# EAGLE library part SSW-133-02-S-S (library con-samtec)
THROUGH-HOLE .025" SQ POST SOCKET Source: Samtec SSW.pdf
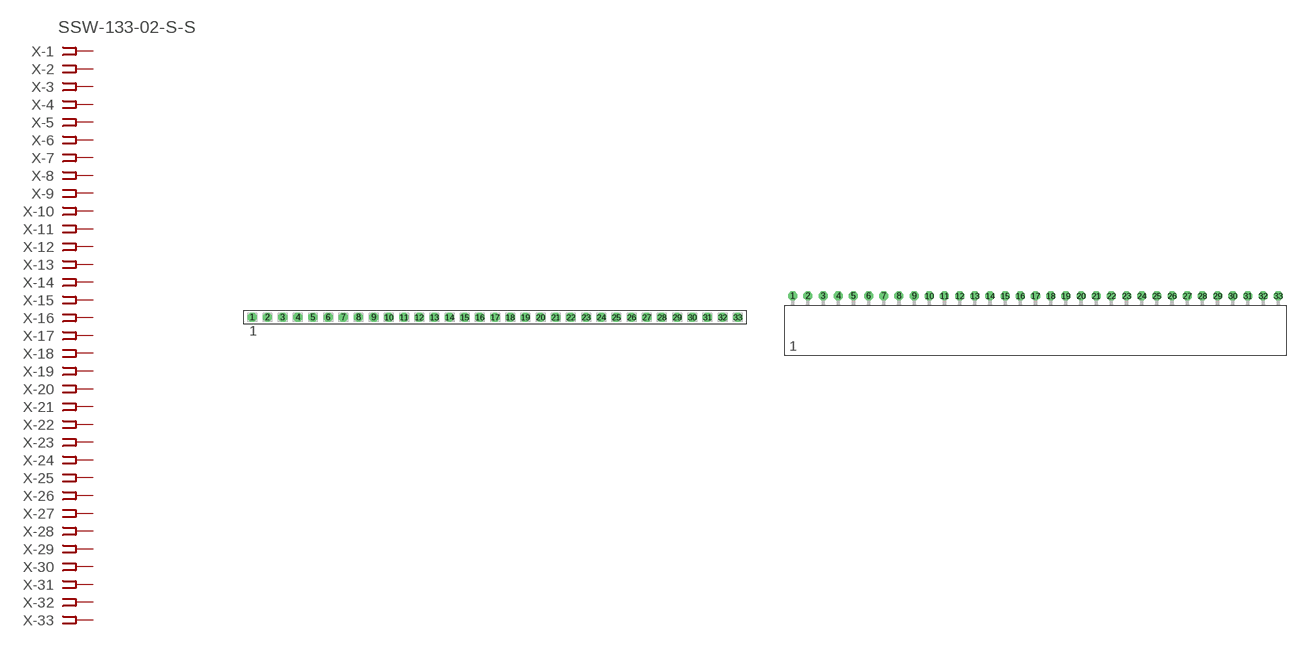
[diagram p71: symbol with the pads of SSW-133-02-S-S; footprints SSW-133-02-S-S, SSW-133-02-S-S-RA]

Designator prefix X; gates -1=FPINV -2=FPIN -3=FPIN -4=FPIN -5=FPIN -6=FPIN -7=FPIN -8=FPIN -9=FPIN -10=FPIN -11=FPIN -12=FPIN -13=FPIN -14=FPIN -15=FPIN -16=FPIN -17=FPIN -18=FPIN -19=FPIN -20=FPIN -21=FPIN -22=FPIN -23=FPIN -24=FPIN -25=FPIN -26=FPIN -27=FPIN -28=FPIN -29=FPIN -30=FPIN -31=FPIN -32=FPIN -33=FPIN

## SSW-133-02-S-S  [SSW-133-02-S-S]
1  -1:1  pas
2  -2:1  pas
3  -3:1  pas
4  -4:1  pas
5  -5:1  pas
6  -6:1  pas
7  -7:1  pas
8  -8:1  pas
9  -9:1  pas
10  -10:1  pas
11  -11:1  pas
12  -12:1  pas
13  -13:1  pas
14  -14:1  pas
15  -15:1  pas
16  -16:1  pas
17  -17:1  pas
18  -18:1  pas
19  -19:1  pas
20  -20:1  pas
21  -21:1  pas
22  -22:1  pas
23  -23:1  pas
24  -24:1  pas
25  -25:1  pas
26  -26:1  pas
27  -27:1  pas
28  -28:1  pas
29  -29:1  pas
30  -30:1  pas
31  -31:1  pas
32  -32:1  pas
33  -33:1  pas

## SSW-133-02-S-S-RA  [SSW-133-02-S-S-RA]
Pads as for SSW-133-02-S-S

## Footprint SSW-133-02-S-S (pad centres in mm)
THROUGH-HOLE .025" SQ POST SOCKET Source: Samtec SSW.pdf
drill 1 pad 1.5 octagon: 1 -40.64,0; 2 -38.1,0; 3 -35.56,0; 4 -33.02,0; 5 -30.48,0; 6 -27.94,0; 7 -25.4,0; 8 -22.86,0; 9 -20.32,0; 10 -17.78,0; 11 -15.24,0; 12 -12.7,0; 13 -10.16,0; 14 -7.62,0; 15 -5.08,0; 16 -2.54,0; 17 0,0; 18 2.54,0; 19 5.08,0; 20 7.62,0; 21 10.16,0; 22 12.7,0; 23 15.24,0; 24 17.78,0; 25 20.32,0; 26 22.86,0; 27 25.4,0; 28 27.94,0; 29 30.48,0; 30 33.02,0; 31 35.56,0; 32 38.1,0; 33 40.64,0

## Footprint SSW-133-02-S-S-RA (pad centres in mm)
THROUGH-HOLE .025" SQ POST SOCKET Source: Samtec SSW.pdf
drill 1 pad 1.5 octagon: 1 -40.64,1.524; 2 -38.1,1.524; 3 -35.56,1.524; 4 -33.02,1.524; 5 -30.48,1.524; 6 -27.94,1.524; 7 -25.4,1.524; 8 -22.86,1.524; 9 -20.32,1.524; 10 -17.78,1.524; 11 -15.24,1.524; 12 -12.7,1.524; 13 -10.16,1.524; 14 -7.62,1.524; 15 -5.08,1.524; 16 -2.54,1.524; 17 0,1.524; 18 2.54,1.524; 19 5.08,1.524; 20 7.62,1.524; 21 10.16,1.524; 22 12.7,1.524; 23 15.24,1.524; 24 17.78,1.524; 25 20.32,1.524; 26 22.86,1.524; 27 25.4,1.524; 28 27.94,1.524; 29 30.48,1.524; 30 33.02,1.524; 31 35.56,1.524; 32 38.1,1.524; 33 40.64,1.524